# EAGLE library part 74LVC125A (library Gekkio-nxp)
Quad buffer/line driver with 5 V tolerant input/outputs; 3-state
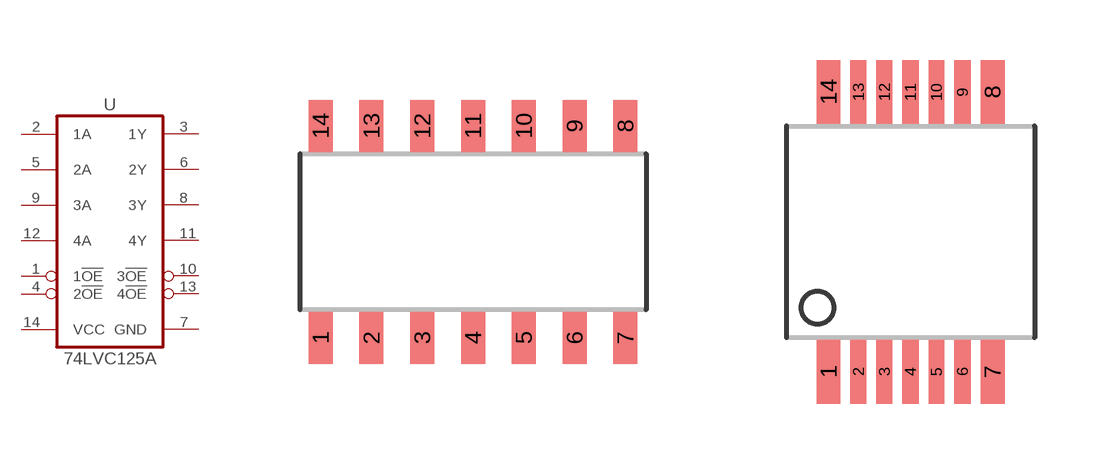
[diagram p4: symbol with the pads of SOT108-1; footprints SOT108-1, SOT337-1]

Designator prefix U

## 74LVC125AD  [SOT108-1]
1  1!OE  in
2  1A  hiz
3  1Y  hiz
4  2!OE  in
5  2A  hiz
6  2Y  hiz
7  GND  pwr
8  3Y  hiz
9  3A  hiz
10  3!OE  in
11  4Y  hiz
12  4A  hiz
13  4!OE  in
14  VCC  pwr

## 74LVC125ADB  [SOT337-1]
Pads as for SOT108-1

## 74LVC125APW  [SOT402-1]
Pads as for SOT108-1

## 74LVC125ABQ  [SOT762-1]
1  1!OE  in
2  1A  hiz
3  1Y  hiz
4  2!OE  in
5  2A  hiz
6  2Y  hiz
7  GND  pwr
8  3Y  hiz
9  3A  hiz
10  3!OE  in
11  4Y  hiz
12  4A  hiz
13  4!OE  in
14  VCC  pwr
15  GND  pwr

## Footprint SOT108-1 (pad centres in mm)
SOT108-1 (SO14) plastic small outline package 14 leads body width 3.9 mm Not tested! Source: NXP SOT108-1 Package Information, 8 February 2016 Soldering footprint: NXP SO & SOJ Footprint (Reflow Soldering), 2001 Feb 19
smd 0.6 x 1.3: 1 -3.81,-2.65; 2 -2.54,-2.65; 3 -1.27,-2.65; 4 0,-2.65; 5 1.27,-2.65; 6 2.54,-2.65; 7 3.81,-2.65; 8 3.81,2.65; 9 2.54,2.65; 10 1.27,2.65; 11 0,2.65; 12 -1.27,2.65; 13 -2.54,2.65; 14 -3.81,2.65

## Footprint SOT337-1 (pad centres in mm)
SOT337-1 (SSOP14) plastic shrink small outline package 14 leads body width 5.3 mm Not tested! Source: NXP SOT337-1 Package Information, 8 February 2016
smd 0.6 x 1.6: 1 -2.05,-3.5; 7 2.05,-3.5; 8 2.05,3.5; 14 -2.05,3.5
smd 0.4 x 1.6: 2 -1.3,-3.5; 3 -0.65,-3.5; 4 0,-3.5; 5 0.65,-3.5; 6 1.3,-3.5; 9 1.3,3.5; 10 0.65,3.5; 11 0,3.5; 12 -0.65,3.5; 13 -1.3,3.5

## Footprint SOT402-1 (pad centres in mm)
SOT402-1 (TSSOP14) plastic thin shrink small outline package 14 leads body width 4.4 mm Not tested! Source: NXP SOT402-1 Package Information, 8 February 2016
smd 0.6 x 1.35: 1 -2.05,-2.95; 7 2.05,-2.95; 8 2.05,2.95; 14 -2.05,2.95
smd 0.4 x 1.35: 2 -1.3,-2.95; 3 -0.65,-2.95; 4 0,-2.95; 5 0.65,-2.95; 6 1.3,-2.95; 9 1.3,2.95; 10 0.65,2.95; 11 0,2.95; 12 -0.65,2.95; 13 -1.3,2.95

## Footprint SOT762-1 (pad centres in mm)
SOT762-1 (DHVQFN14) plastic dual in-line compatible thermal enhanced very thin quad flat package no leads 14 terminals body 2.5 x 3 x 0.85 mm Not tested! Source: NXP SOT762-1 Package Information, 8 February 2016
smd 0.9 x 0.24: 1 -1.55,-0.25; 7 1.55,-0.25; 8 1.55,0.25; 14 -1.55,0.25
smd 0.24 x 0.9: 2 -1,-1.3; 3 -0.5,-1.3; 4 0,-1.3; 5 0.5,-1.3; 6 1,-1.3; 9 1,1.3; 10 0.5,1.3; 11 0,1.3; 12 -0.5,1.3; 13 -1,1.3
smd 1.4 x 0.9: 15 0,0